# Altium schematic symbol library SubG.SchLib: 23 symbols
Pins are listed as number, name and electrical type; pins without a type are passive.

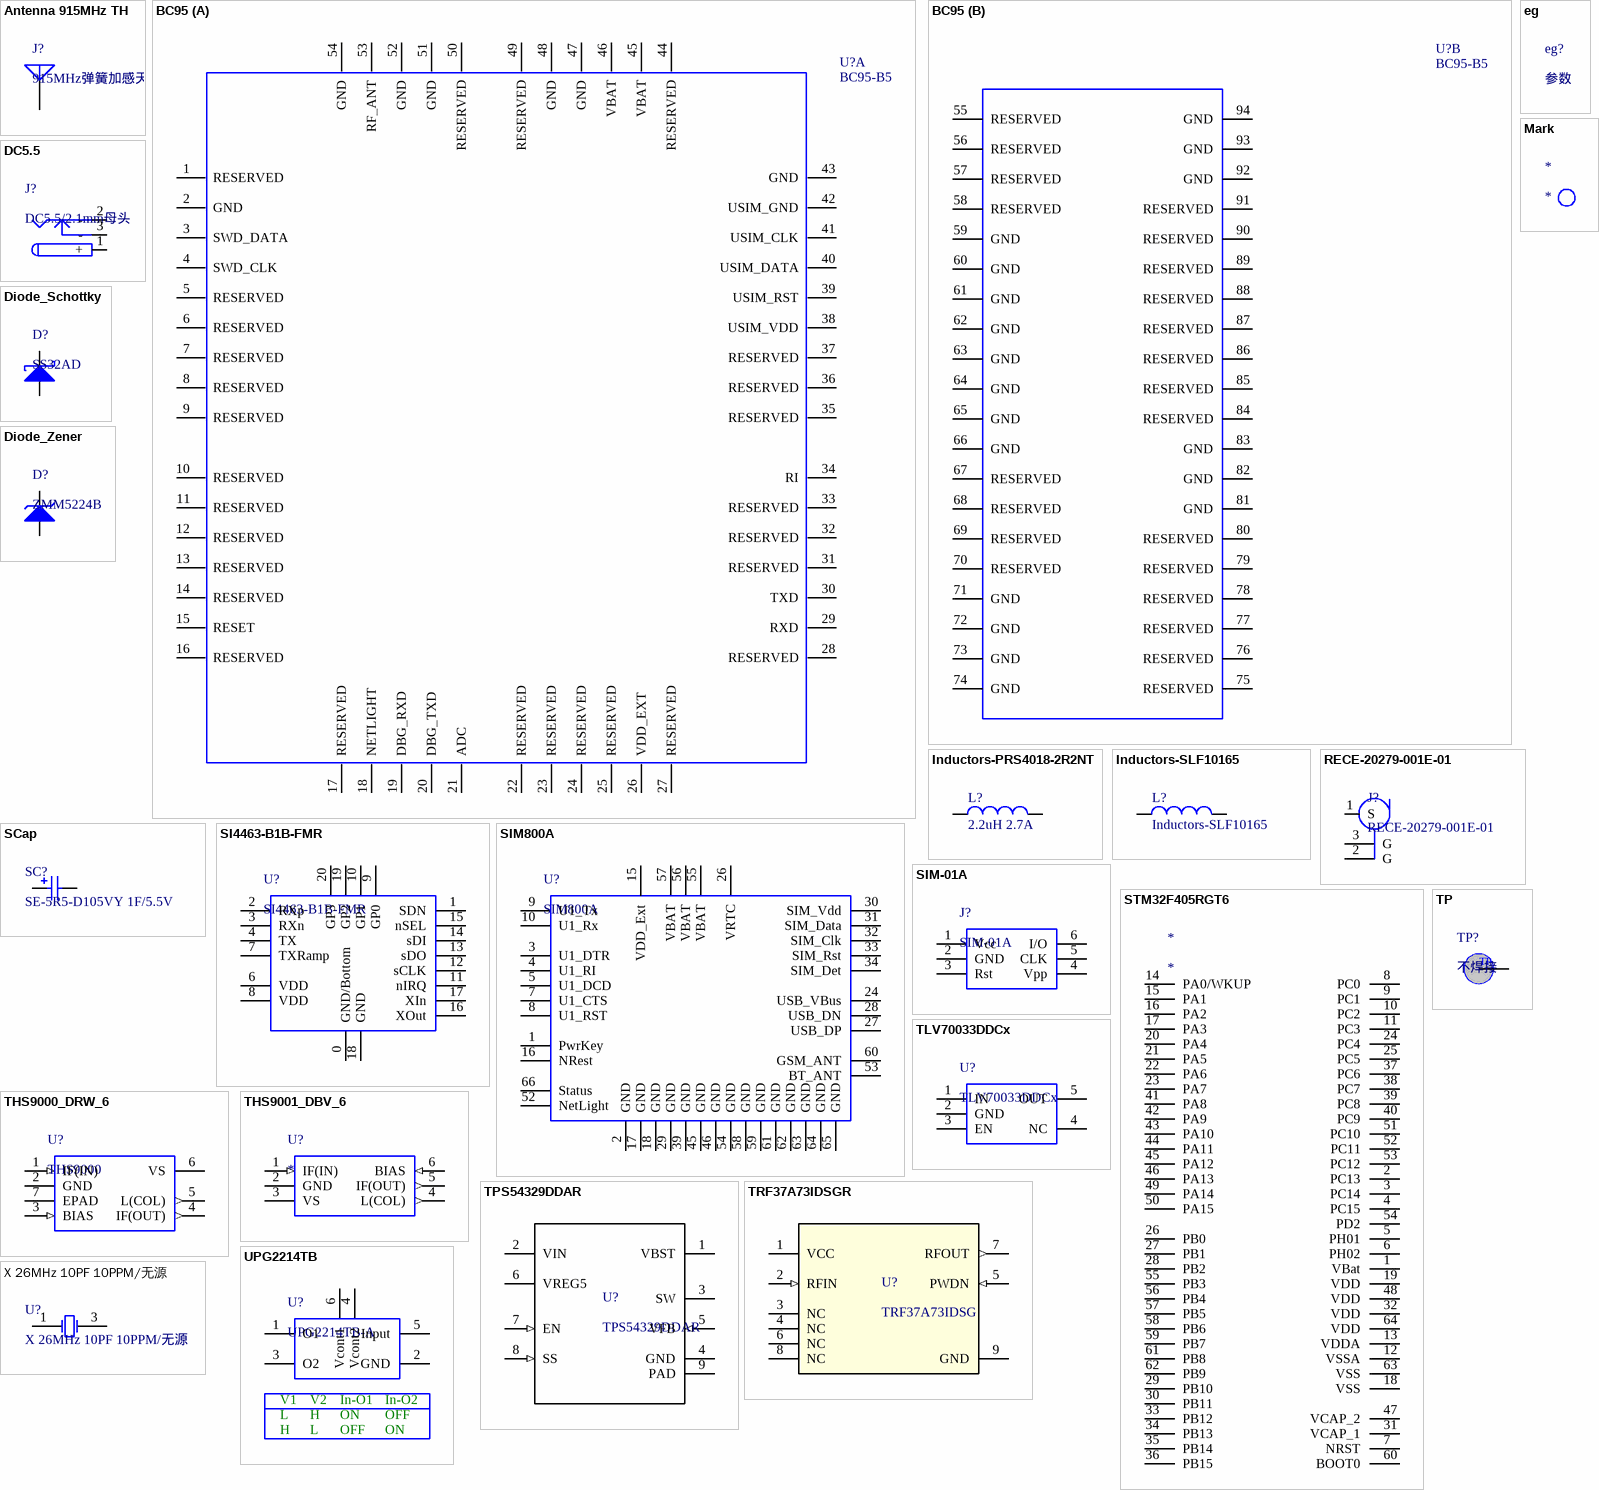
[diagram p0: symbols Antenna 915MHz TH to X 26MHz 10PF 10PPM/无源]

## Antenna 915MHz TH
designator J?, comment 915MHz弹簧加感天线
弹簧加感天线; ManufacturerPartNumber: 制造商零件编号; ComponentLink1Description: 供应商链接; Supplier: 供应商名称; SuppliersPartNumber: 销售商零件编号; Package: 封装; SuppliersLink1URL: 供应商购买链接
footprint PIN1 (Generic Antenna; 1 Lead)
pins: 1 A

## BC95
designator U?, comment BC95-B5
电信NBIot模块; Value: *; Part Description: *; PCB DECAL: *
footprint BC95
part A pins: 1 RESERVED, 2 GND, 3 SWD_DATA, 4 SWD_CLK, 5 RESERVED, 6 RESERVED, 7 RESERVED, 8 RESERVED, 9 RESERVED, 10 RESERVED, 11 RESERVED, 12 RESERVED, 13 RESERVED, 14 RESERVED, 15 RESET, 16 RESERVED, 17 RESERVED, 18 NETLIGHT, 19 DBG_RXD, 20 DBG_TXD, 21 ADC, 22 RESERVED, 23 RESERVED, 24 RESERVED, 25 RESERVED, 26 VDD_EXT, 27 RESERVED, 28 RESERVED, 29 RXD, 30 TXD, 31 RESERVED, 32 RESERVED, 33 RESERVED, 34 RI, 35 RESERVED, 36 RESERVED, 37 RESERVED, 38 USIM_VDD, 39 USIM_RST, 40 USIM_DATA, 41 USIM_CLK, 42 USIM_GND, 43 GND, 44 RESERVED, 45 VBAT, 46 VBAT, 47 GND, 48 GND, 49 RESERVED, 50 RESERVED, 51 GND, 52 GND, 53 RF_ANT, 54 GND
part B pins: 55 RESERVED, 56 RESERVED, 57 RESERVED, 58 RESERVED, 59 GND, 60 GND, 61 GND, 62 GND, 63 GND, 64 GND, 65 GND, 66 GND, 67 RESERVED, 68 RESERVED, 69 RESERVED, 70 RESERVED, 71 GND, 72 GND, 73 GND, 74 GND, 75 RESERVED, 76 RESERVED, 77 RESERVED, 78 RESERVED, 79 RESERVED, 80 RESERVED, 81 GND, 82 GND, 83 GND, 84 RESERVED, 85 RESERVED, 86 RESERVED, 87 RESERVED, 88 RESERVED, 89 RESERVED, 90 RESERVED, 91 RESERVED, 92 GND, 93 GND, 94 GND
2 alternate drawings of the same symbol

## DC5.5
designator J?, comment DC5.5/2.1mm母头
DC5.5连接器; ManufacturerPartNumber: 制造商零件编号; ComponentLink1Description: 供应商链接; Supplier: 供应商名称; SuppliersPartNumber: 销售商零件编号; Package: 封装; SuppliersLink1URL: 供应商购买链接
footprint PWR5.5 (DC5.5座)
pins: 1 + (power), 1A (power), 1B (power), 2 - (power), 2A (power), 2B (power), 3 - (power), 3A (power), 3B (power)

## Diode_Schottky
designator D?, comment SS32AD
肖特基二极管
footprint SMA(DO-214AC)_S5
footprint SOD-123F
pins: A, K

## Diode_Zener
designator D?, comment ZMM5224B
2.8V 稳压管/2.66-2.94V ST
footprint LL-34
pins: A, K

## eg
designator eg?, comment 参数
新建元件示例; ManufacturerPartNumber: 制造商零件编号; ComponentLink1Description: 供应商链接; Supplier: 供应商名称; SuppliersPartNumber: 销售商零件编号; Package: 封装; SuppliersLink1URL: 供应商购买链接

## Inductors-PRS4018-2R2NT
designator L?, comment 2.2uH 2.7A
PRS4018-2R2NT; Code_IEC: 1005; Published: 8-Jun-2000; LatestRevisionDate: 29-May-2009; LatestRevisionNote: IPC-7351 Footprint Added.; PackageReference: 0402-A; Publisher: Altium Limited; PackageDescription: Chip Inductor; Code_JEITA: 0402
footprint Inductors_4018 (PRS4018  4018封装)
pins: 1, 2

## Inductors-SLF10165
designator L?
Inductor; Code_IEC: 1005; Published: 8-Jun-2000; LatestRevisionDate: 29-May-2009; LatestRevisionNote: IPC-7351 Footprint Added.; PackageReference: 0402-A; Publisher: Altium Limited; PackageDescription: Chip Inductor; Code_JEITA: 0402
footprint L_SLF10165 (SLF10165 10X10mm 功率电感)
pins: 1, 2

## Mark
designator *
footprint Mark (Mark点)

## RECE-20279-001E-01
designator J?
RF连接器/同轴连接器 ONBRD IPEX MHF RECEPTACLE; ComponentLink1Description: http://www.mouser.cn/ProductDetail/Taoglas/RECE-20279-001E-01/?qs=%2fha2pyFadujqhFX9QSGQ0Jq8TQbSmm0TSdw7FzJZzJAdZFUpRzf0EieCCALjSPrt; Supplier: Mouser; SuppliersPartNumber: 960-RECE20279001E01; Package: IPEX MHF
footprint I-PEX (RF连接器/同轴连接器)
pins: 1 S, 2 G, 3 G

## SCap
designator SC?, comment SE-5R5-D105VY 1F/5.5V
KAMCAP(凯美) 超级电容; ManufacturerPartNumber: 制造商零件编号; ComponentLink1Description: 供应商链接; Supplier: 供应商名称; SuppliersPartNumber: 销售商零件编号; Package: 封装; SuppliersLink1URL: 供应商购买链接
footprint CAP6/21 (超级电容6/21mm)
pins: 1, 2

## SI4463-B1B-FMR
designator U?
IC; ComponentLink1Description: 供应商链接; Supplier: 供应商名称; SuppliersPartNumber: 销售商零件编号; Package: 封装
footprint QFN-20 (SI4463)
pins: 0 GND/Bottom, 1 SDN, 2 RXp, 3 RXn, 4 TX, 5 NC hidden, 6 VDD, 7 TXRamp, 8 VDD, 9 GP0, 10 GP1, 11 nIRQ, 12 sCLK, 13 sDO, 14 sDI, 15 nSEL, 16 XOut, 17 XIn, 18 GND, 19 GP2, 20 GP3

## SIM800A
designator U?
GPRS/GSM模块
footprint SIM800A (SIM800A GPRS)
pins: 0 hidden, 1 PwrKey, 2 GND, 3 U1_DTR, 4 U1_RI, 5 U1_DCD, 6 NC hidden, 7 U1_CTS, 8 U1_RST, 9 U1_Tx, 10 U1_Rx, 11 Disp_Clk hidden, 12 Disp_Data hidden, 13 Disp_Dc hidden, 14 Disp_Cs hidden, 15 VDD_Ext, 16 NRest, 17 GND, 18 GND, 19 MICP hidden, 20 MICN hidden, 21 SPKP hidden, 22 SPKN hidden, 23 KPLED hidden, 24 USB_VBus, 25 ADC hidden, 26 VRTC, 27 USB_DP, 28 USB_DN, 29 GND, 30 SIM_Vdd, 31 SIM_Data, 32 SIM_Clk, 33 SIM_Rst, 34 SIM_Det, 35 PWM1 hidden, 36 PWM2 hidden, 37 SDA hidden, 38 SDL hidden, 39 GND, 40 hidden, 41 hidden, 42 hidden, 43 hidden, 44 hidden, 45 GND, 46 GND, 47 hidden, 48 hidden, 49 hidden, 50 hidden, 51 hidden, 52 NetLight, 53 BT_ANT, 54 GND, 55 VBAT, 56 VBAT, 57 VBAT, 58 GND, 59 GND, 60 GSM_ANT, 61 GND, 62 GND, 63 GND, 64 GND, 65 GND, 66 Status, 67 hidden, 68 hidden, 69 0 hidden

## SIM-01A
designator J?
韩国韩荣6针MINI SIM卡座/16.4mm*14.75mm; LC NO.: C99403; name: 韩荣; name2: 卡座/SIM-01A  16.4mm*14.75mm; link: http://www.szlcsc.com/so/product/details_100617.html
footprint SIM-01A (韩荣 mini sim卡座 6pin 翻盖 16.4X14.75mm)
pins: 1 Vcc, 2 GND, 3 Rst, 4 Vpp, 5 CLK, 6 I/O, 9 hidden, 10 hidden

## STM32F405RGT6
designator *
pins: 1 VBat, 2 PC13, 3 PC14, 4 PC15, 5 PH01, 6 PH02, 7 NRST, 8 PC0, 9 PC1, 10 PC2, 11 PC3, 12 VSSA, 13 VDDA, 14 PA0/WKUP, 15 PA1, 16 PA2, 17 PA3, 18 VSS, 19 VDD, 20 PA4, 21 PA5, 22 PA6, 23 PA7, 24 PC4, 25 PC5, 26 PB0, 27 PB1, 28 PB2, 29 PB10, 30 PB11, 31 VCAP_1, 32 VDD, 33 PB12, 34 PB13, 35 PB14, 36 PB15, 37 PC6, 38 PC7, 39 PC8, 40 PC9, 41 PA8, 42 PA9, 43 PA10, 44 PA11, 45 PA12, 46 PA13, 47 VCAP_2, 48 VDD, 49 PA14, 50 PA15, 51 PC10, 52 PC11, 53 PC12, 54 PD2, 55 PB3, 56 PB4, 57 PB5, 58 PB6, 59 PB7, 60 BOOT0, 61 PB8, 62 PB9, 63 VSS, 64 VDD

## THS9000_DRW_6
designator U?, comment THS9000
IC; Manufacturer_Part_Number: ths9000_drw_6; Vendor: Texas Instruments; PACKAGE_DESIGNATOR: DRW; PIN_COUNT: 6; FAMILY_NAME: FIXED GAIN; INDUSTRY_STD_PKG_TYPE: VSON; GENERIC_PART_NUMBER: THS9000; Manufacturer: Texas Instruments; Datasheet_URL: http://www.ti.com/lit/gpn/THS9000; Value: Value; Type: Type; RefDes: RefDes
footprint DRW6_0P62X0P94
footprint DRW6_0P62X0P94 (THS9000)
pins: 1 IF(IN) (in), 2 GND (power), 3 BIAS (in), 4 IF(OUT) (out), 5 L(COL) (out), 6 VS (power), 7 EPAD

## THS9001_DBV_6
designator U?
IC; Manufacturer_Part_Number: ths9001_dbv_6; GENERIC_PART_NUMBER: THS9001; Vendor: Texas Instruments; PACKAGE_DESIGNATOR: DBV; PIN_COUNT: 6; FAMILY_NAME: FIXED GAIN; INDUSTRY_STD_PKG_TYPE: SOT-23; Manufacturer: Texas Instruments; Datasheet_URL: http://www.ti.com/lit/gpn/THS9001; Value: Value; Type: Type; RefDes: RefDes
footprint DBV6-M (THS9001)
pins: 1 IF(IN) (in), 2 GND (power), 3 VS (power), 4 L(COL) (out), 5 IF(OUT) (out), 6 BIAS (in)

## TLV70033DDCx
designator U?
TI 低压差; ManufacturerPartNumber: 制造商零件编号; ComponentLink1Description: 供应商链接; Supplier: 供应商名称; SuppliersPartNumber: 销售商零件编号; Package: 封装; SuppliersLink1URL: 供应商购买链接
footprint SOT-23-5
pins: 1 IN, 2 GND, 3 EN, 4 NC, 5 OUT

## TP
designator TP?, comment 不焊接
测点点
footprint TP (测试点)
pins: 1

## TPS54329DDAR
designator U?
IC; Manufacturer: Texas Instruments; PIN_COUNT: 9; Introduction: 4.5V to 18V Input, 3-A SYNCHRONOUS STEP; PartNumber: TPS54329DDAR; Alternate_PartNumber: TPS54329DDA; PackageReference: DDA0008E; MountType: SMT; CompType: IC; RoHS: Y; RefDes: RefDes; TYPE: TYPE; Value: Value
footprint DDA0008E_M
pins: 1 VBST (power), 2 VIN (power), 3 SW (power), 4 GND (power), 5 VFB (in), 6 VREG5 (power), 7 EN (in), 8 SS (in), 9 PAD (power)

## TRF37A73IDSGR
designator U?, comment TRF37A73IDSG
RF power AP; PartNumber: TRF37A73IDSGR; Alternate_PartNumber: TRF37A73IDSGT; Manufacturer: Texas Instruments; CompType: IC; PIN_COUNT: 9; Application_BuildNumber: *; PackageReference: DSG0008A; MountType: SMT; RoHS: Y; RefDes: RefDes; TYPE: TYPE; Value: Value
footprint WSON8 (TRF37A73)
pins: 1 VCC (power), 2 RFIN (in), 3 NC, 4 NC, 5 PWDN (in), 6 NC, 7 RFOUT (out), 8 NC, 9 GND (power)

## UPG2214TB
designator U?, comment UPG2214TB-A
footprint 6-PSM (uPG2214TB RF Switch)
pins: 1 O1, 2 GND, 3 O2, 4 Vcont2, 5 Input, 6 Vcont1
text: V1; V2; In-O1; In-O2; L; H; ON; OFF

## X 26MHz 10PF 10PPM/无源
designator U?
贴片晶振; ManufacturerPartNumber: XXCBBCNANF-26M; ManufacturerName: TAITIEN; ComponentLink1Description: 供应商链接; Supplier: LC; SuppliersPartNumber: C117872; Package: SMD-3225_4P; SuppliersLink1URL: http://www.szlcsc.com/product/details_119131.html
footprint OSC3225 (四脚晶振)
pins: 1 OSC1, 2 GND hidden to GND, 3 OSC2, 4 GND hidden to GND